# Altium schematic symbol library BMS Slave Device R2.SchLib: 5 symbols
Pins are listed as number, name and electrical type; pins without a type are passive.

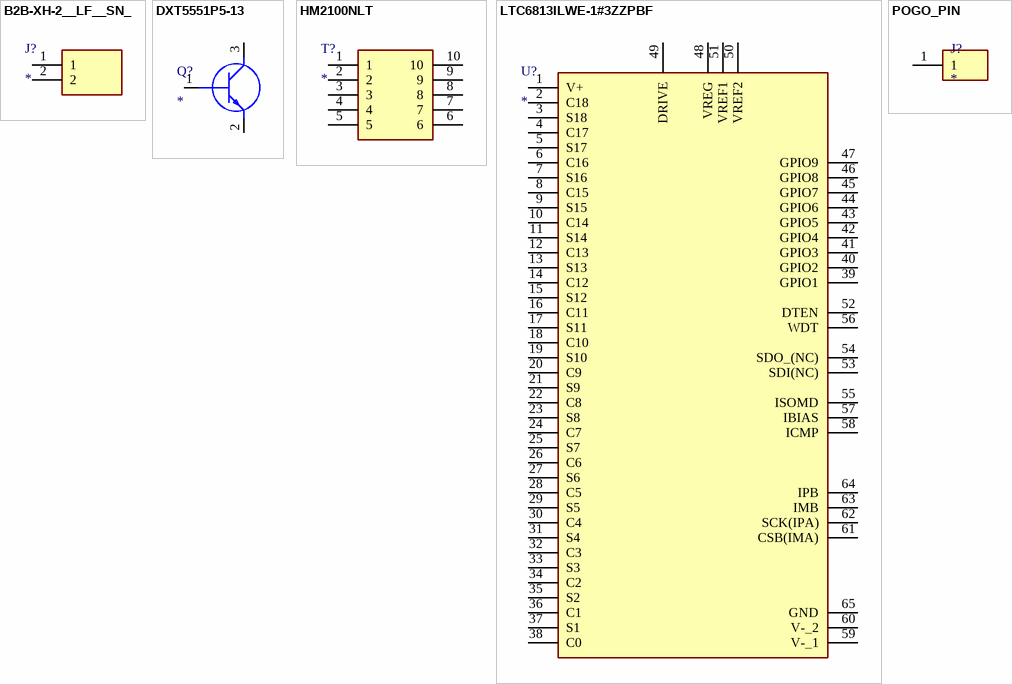
[diagram p0: symbols B2B-XH-2__LF__SN_ to POGO_PIN]

## B2B-XH-2__LF__SN_
designator J?
Connector; Manufacturer_Name: JST (JAPAN SOLDERLESS TERMINALS); Manufacturer_Part_Number: B2B-XH-2 (LF)(SN); Datasheet Link: http://uk.rs-online.com/web/p/products/1755297; Height: 7mm; RS Part Number: 1755499; RS Price/Stock: http://uk.rs-online.com/web/p/products/1755499
footprint B2BXH2LFSN
pins: 1, 2

## DXT5551P5-13
designator Q?
Transistor BJT NPN; Manufacturer_Name: Diodes Inc.; Manufacturer_Part_Number: DXT5551P5-13; Datasheet Link: https://www.diodes.com/assets/Datasheets/DXT5551P5.pdf; Mouser Part Number: 522-DXT5551P5-13; Mouser Price/Stock: https://www.mouser.com/Search/Refine.aspx?Keyword=522-DXT5551P5-13
footprint DXT5551P513
pins: 1 B, 2 E, 3 C

## HM2100NLT
designator T?
Transformer; Manufacturer_Name: Pulse; Manufacturer_Part_Number: HM2100NLT; Datasheet Link: https://productfinder.pulseeng.com/doc_type/WEB301/doc_num/HM2100NL/doc_part/HM2100NL.pdf; Height: 3.45mm; Mouser Part Number: 673-HM2100NLT; Mouser Price/Stock: https://www.mouser.com/Search/Refine.aspx?Keyword=673-HM2100NLT
footprint HM2100NLT
pins: 1, 2, 3, 4, 5, 6, 7, 8, 9, 10

## LTC6813ILWE-1#3ZZPBF
designator U?
Integrated Circuit; Manufacturer_Name: Analog Devices; Manufacturer_Part_Number: LTC6813ILWE-1#3ZZPBF; Datasheet Link: https://www.analog.com/media/en/technical-documentation/data-sheets/68131f.pdf; Height: 1.6mm; Mouser Part Number: 584-6813ILWE13ZZPBF
footprint QFP50P1200X1200X120-65N
pins: 1 V+, 2 C18, 3 S18, 4 C17, 5 S17, 6 C16, 7 S16, 8 C15, 9 S15, 10 C14, 11 S14, 12 C13, 13 S13, 14 C12, 15 S12, 16 C11, 17 S11, 18 C10, 19 S10, 20 C9, 21 S9, 22 C8, 23 S8, 24 C7, 25 S7, 26 C6, 27 S6, 28 C5, 29 S5, 30 C4, 31 S4, 32 C3, 33 S3, 34 C2, 35 S2, 36 C1, 37 S1, 38 C0, 39 GPIO1, 40 GPIO2, 41 GPIO3, 42 GPIO4, 43 GPIO5, 44 GPIO6, 45 GPIO7, 46 GPIO8, 47 GPIO9, 48 VREG, 49 DRIVE, 50 VREF2, 51 VREF1, 52 DTEN, 53 SDI(NC), 54 SDO_(NC), 55 ISOMD, 56 WDT, 57 IBIAS, 58 ICMP, 59 V-_1, 60 V-_2, 61 CSB(IMA), 62 SCK(IPA), 63 IMB, 64 IPB, 65 GND

## POGO_PIN
designator J?
Pogo Pin
pins: 1